# EAGLE library part LT6002CGN (library LT6002)
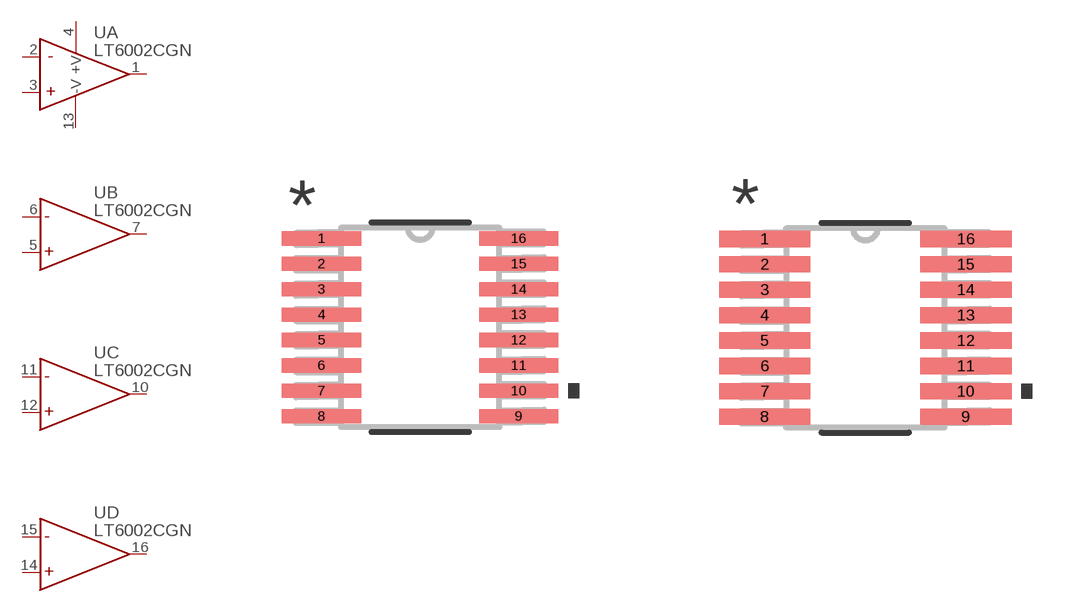
[diagram p2: symbol with the pads of SSOP-16_GN; footprints SSOP-16_GN, SSOP-16_GN-M]

Designator prefix U; gates A=OPAMP+PWR B=OPAMP C=OPAMP D=OPAMP

## LT6002CGN (MANUFACTURER_PART_NUMBER: LT6002CGN#PBF; VENDOR: Linear Technology)  [SSOP-16_GN]
1  A:OUT  out
2  A:-IN  in
3  A:+IN  in
4  A:+V  pwr
5  B:+IN  in
6  B:-IN  in
7  B:OUT  out
10  C:OUT  out
11  C:-IN  in
12  C:+IN  in
13  A:-V  pwr
14  D:+IN  in
15  D:-IN  in
16  D:OUT  out

## LT6002CGNSSOP-16_GN-M (MANUFACTURER_PART_NUMBER: LT6002CGN#PBF; VENDOR: Linear Technology)  [SSOP-16_GN-M]

## LT6002CGNSSOP-16_GN-L (MANUFACTURER_PART_NUMBER: LT6002CGN#PBF; VENDOR: Linear Technology)  [SSOP-16_GN-L]

## Footprint SSOP-16_GN (pad centres in mm)
smd 1.981 x 0.356: 1 -2.464,2.223; 2 -2.464,1.587; 3 -2.464,0.953; 4 -2.464,0.318; 5 -2.464,-0.318; 6 -2.464,-0.953; 7 -2.464,-1.587; 8 -2.464,-2.223; 9 2.464,-2.223; 10 2.464,-1.587; 11 2.464,-0.953; 12 2.464,-0.318; 13 2.464,0.318; 14 2.464,0.953; 15 2.464,1.587; 16 2.464,2.223

## Footprint SSOP-16_GN-M (pad centres in mm)
smd 2.286 x 0.406: 1 -2.515,2.223; 2 -2.515,1.587; 3 -2.515,0.953; 4 -2.515,0.318; 5 -2.515,-0.318; 6 -2.515,-0.953; 7 -2.515,-1.587; 8 -2.515,-2.223; 9 2.515,-2.223; 10 2.515,-1.587; 11 2.515,-0.953; 12 2.515,-0.318; 13 2.515,0.318; 14 2.515,0.953; 15 2.515,1.587; 16 2.515,2.223

## Footprint SSOP-16_GN-L (pad centres in mm)
smd 1.676 x 0.305: 1 -2.413,2.223; 2 -2.413,1.587; 3 -2.413,0.953; 4 -2.413,0.318; 5 -2.413,-0.318; 6 -2.413,-0.953; 7 -2.413,-1.587; 8 -2.413,-2.223; 9 2.413,-2.223; 10 2.413,-1.587; 11 2.413,-0.953; 12 2.413,-0.318; 13 2.413,0.318; 14 2.413,0.953; 15 2.413,1.587; 16 2.413,2.223